# Altium footprint library ble_ac_rc_lib.PcbLib: 62 footprints (part 1 of 4)
Each footprint in its own frame and in the unit in brackets; x right, y up, seen from the top. Pads: shape width x height; smd on the part's side, far side on the other; paste and mask are expansions set on the pad; w line width, h text height; cw(c..) or ccw(c..) is an arc to the next point about the centre after c.
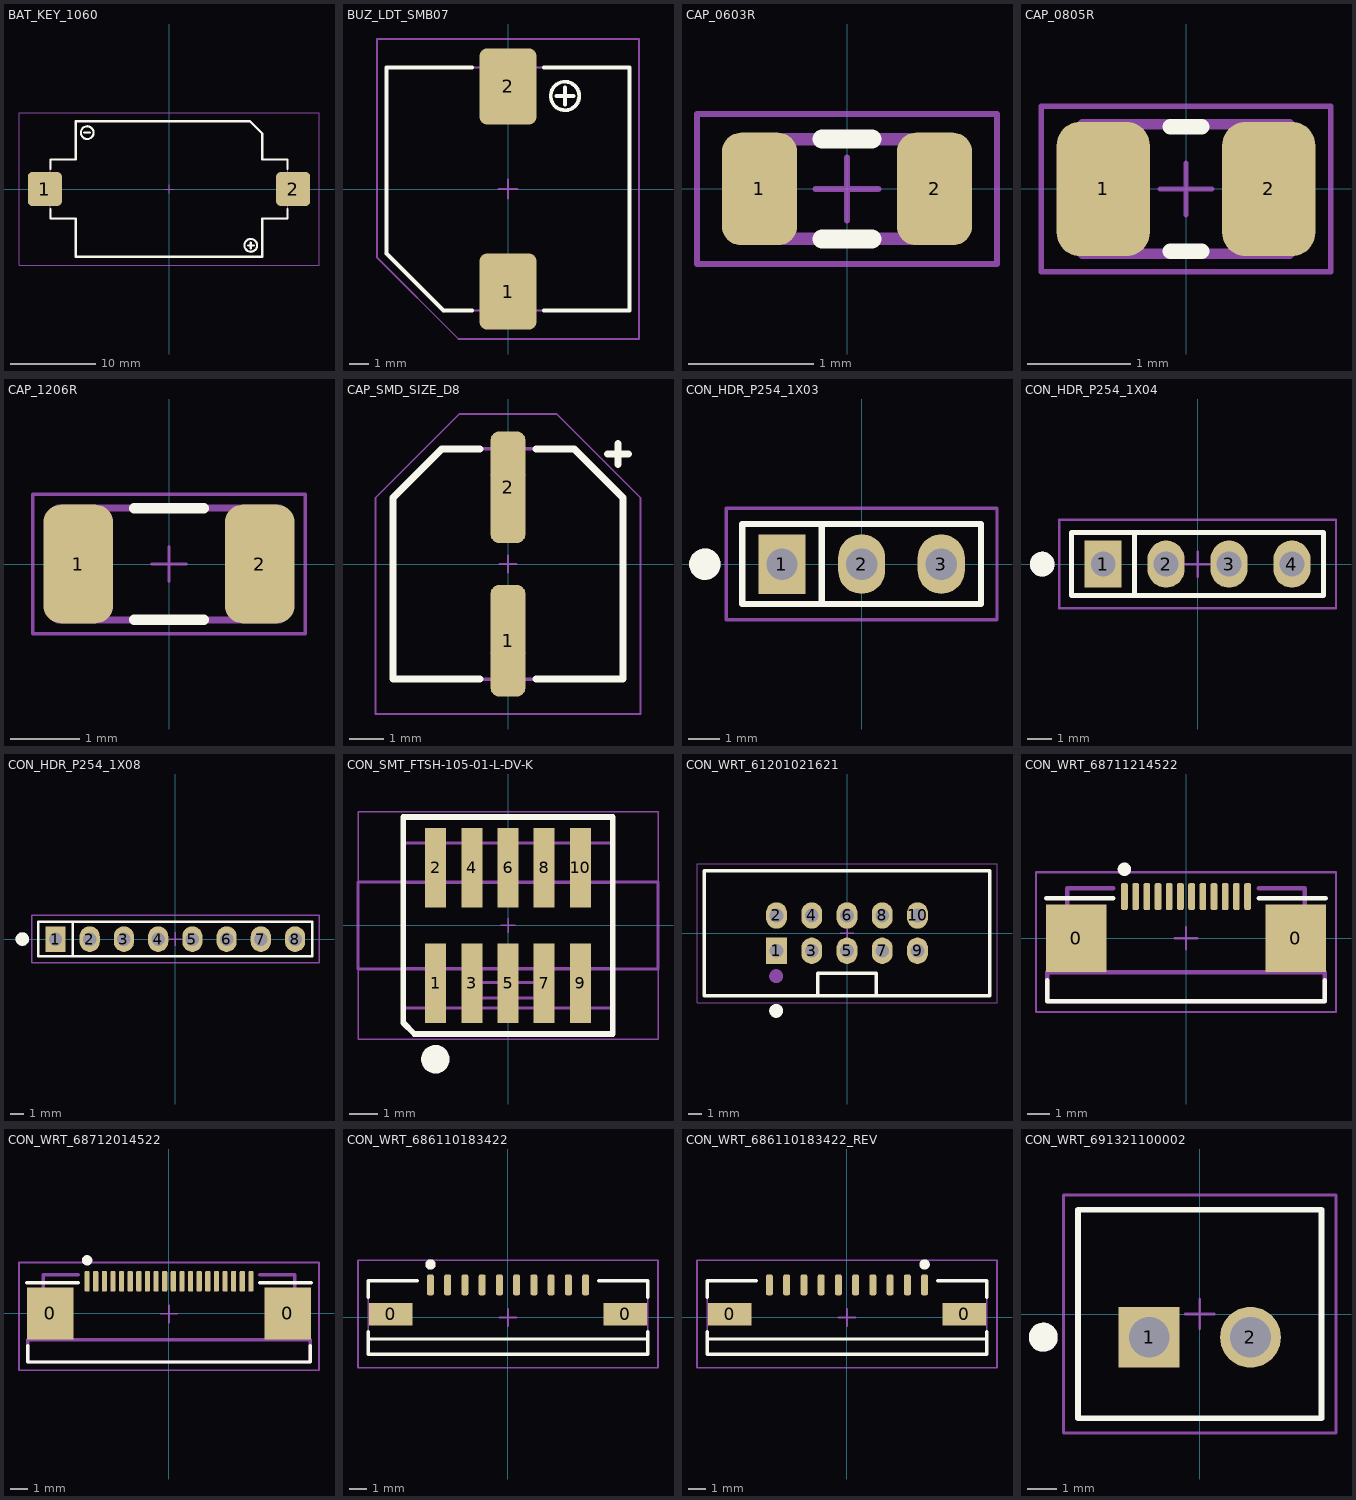
[diagram p0: the footprints below, top view; thin cyan lines are the x and y axes]

## BAT_KEY_1060 [mm]
pads (2):
  rrect25% 4x4 smd: 1(-14.65,0) 2(14.65,0)
Silkscreen Top:
  circle w0.25: c9.65,-6.65 r0.75
  circle w0.25: c-9.65,6.65 r0.75
  lines w0.25: -14,-2.35 -14,-3.5 -11,-3.5 -11,-8 11,-8 11,-3.5 14,-3.5 14,-2.35 ; -14,2.35 -14,3.5 -11,3.5 -11,8 9.55,8 11,6.55 11,3.5 14,3.5 14,2.35 ; -10,6.65 -9.3,6.65 ; 9.3,-6.65 10,-6.65 ; 9.65,-7 9.65,-6.3
M19 AssemblySMDTop:
  circle w0.1: c-9.65,6.65 r0.75
  circle w0.1: c9.65,-6.65 r0.75
  lines w0.1: -14,-1.6 -16.1,-1.6 -16.1,1.6 -14,1.6 ; -10,6.65 -9.3,6.65 ; 9.3,-6.65 10,-6.65 ; 9.65,-7 9.65,-6.3 ; 14,-1.6 16.1,-1.6 16.1,1.6 14,1.6 ; -14,-3.5 -11,-3.5 -11,-8 11,-8 11,-3.5 14,-3.5 14,3.5 11,3.5 11,6.55 9.55,8 -11,8 -11,3.5 -14,3.5 -14,-3.5
  text ".Designator" at -6.35,-0.5 h1.5
M23 CourtyardTop:
  lines w0.1: -0.5,0 0.5,0 ; 0,-0.5 0,0.5 ; -17.7,-9 -17.7,9 17.7,9 17.7,-9 -17.7,-9
3D body "Keystone_KEYS1060.step": height 5.7, standoff 0.1, extent -16.1,-8 16.1,8
3D body "Battery_CR2032.step": height 5.5, standoff 2.3, extent -10,-10 10,10

## BUZ_LDT_SMB07 [mm]
pads (2):
  rrect25% 3x4 smd: 1(0,-5.4) 2(0,5.4)
Silkscreen Top:
  circle w0.2: c3,4.9 r0.75
  lines w0.2: -1.9,-6.4 -3.4,-6.4 -6.4,-3.4 -6.4,6.4 -1.9,6.4 ; 1.9,-6.4 6.4,-6.4 6.4,6.4 1.9,6.4 ; 2.55,4.9 3.45,4.9 ; 3,4.45 3,5.35
M19 AssemblySMDTop:
  circle w0.1: c3,4.9 r0.75
  lines w0.1: 2.55,4.9 3.45,4.9 ; 3,4.45 3,5.35 ; -6.4,-3.4 -6.4,6.4 6.4,6.4 6.4,-6.4 -3.4,-6.4 -6.4,-3.4 ; -1,-6.9 1,-6.9 1,-6.4 -1,-6.4 -1,-6.9 ; -1,6.4 1,6.4 1,6.9 -1,6.9 -1,6.4
  text ".Designator" at -5.1,-0.55 h1.5
M23 CourtyardTop:
  lines w0.1: -0.5,0 0.5,0 ; 0,-0.5 0,0.5 ; -6.9,-3.607 -2.607,-7.9 6.9,-7.9 6.9,7.9 -6.9,7.9 -6.9,-3.607
  lines w0.2: -6.4,-3.4 -3.4,-6.4
3D body: height 0.25, standoff 0, extent -1,3.9 1,6.9
3D body: height 0.25, standoff 0, extent -1,-6.9 1,-3.9
3D body: height 6.5, standoff 0.25, extent -6.4,-6.4 6.4,6.4
3D body: height 45.2, standoff 0, extent -7.05,8.2 -7.05,8.2

## CAP_0603R [mm]
pads (2):
  rrect50% 0.6x0.9 smd: 1(-0.7,0) 2(0.7,0)
Silkscreen Top:
  lines w0.15: -0.2,-0.4 0.2,-0.4 ; -0.2,0.4 0.2,0.4
M19 AssemblySMDTop:
  lines w0.1: -0.8,-0.4 -0.8,0.4 0.8,0.4 0.8,-0.4 -0.8,-0.4
  text ".Designator" at -0.6,-0.15 h0.4
M23 CourtyardTop:
  lines w0.05: -0.25,0 0.25,0 ; 0,-0.25 0,0.25 ; -1.2,-0.6 -1.2,0.6 1.2,0.6 1.2,-0.6 -1.2,-0.6
3D body "CAPC1608X_0603.step": height 0.57, standoff 0, extent -0.8,-0.41 0.8,0.41

## CAP_0805R [mm]
pads (2):
  rrect50% 0.9x1.3 smd: 1(-0.8,0) 2(0.8,0)
Silkscreen Top:
  lines w0.15: -0.15,-0.6 0.15,-0.6 ; -0.15,0.6 0.15,0.6
M19 AssemblySMDTop:
  lines w0.1: -1,-0.625 -1,0.625 1,0.625 1,-0.625 -1,-0.625
  text ".Designator" at -1.025,-0.275 h0.64
M23 CourtyardTop:
  lines w0.05: -0.25,0 0.25,0 ; 0,-0.25 0,0.25 ; -1.4,-0.8 -1.4,0.8 1.4,0.8 1.4,-0.8 -1.4,-0.8
3D body "CAP0805.step": height 0.6, standoff 0, extent -1,-0.625 1,0.625

## CAP_1206R [mm]
pads (2):
  rrect50% 1x1.7 smd: 1(-1.3,0) 2(1.3,0)
Silkscreen Top:
  lines w0.15: -0.5,-0.8 0.5,-0.8 ; -0.5,0.8 0.5,0.8
M19 AssemblySMDTop:
  lines w0.1: -1.6,-0.8 -1.6,0.8 1.6,0.8 1.6,-0.8 -1.6,-0.8
  text ".Designator" at -1.325,-0.475 h1
M23 CourtyardTop:
  lines w0.05: -0.25,0 0.25,0 ; 0,-0.25 0,0.25 ; -1.95,-1 1.95,-1 1.95,1 -1.95,1 -1.95,-1
3D body "CAP1206.step": height 0.79, standoff 0.01, extent -1.6,-0.8 1.6,0.8

## CAP_SMD_SIZE_D8 [mm]
pads (2):
  rrect50% 1x3.2 smd: 1(0,-2.2) 2(0,2.2)
Silkscreen Top:
  lines w0.2: -0.8,-3.3 -3.3,-3.3 -3.3,1.9 -1.9,3.3 -0.8,3.3 ; 0.8,-3.3 3.3,-3.3 3.3,1.9 1.9,3.3 0.8,3.3 ; 2.85,3.15 3.45,3.15 ; 3.15,2.85 3.15,3.45
M19 AssemblySMDTop:
  lines w0.1: -3.3,-3.3 -3.3,1.9 -1.9,3.3 1.9,3.3 3.3,1.9 3.3,-3.3 -3.3,-3.3
  lines w0.2: -0.4,-2.55 0.4,-2.55 ; -0.4,2.55 0.4,2.55 ; 0,2.15 0,2.95
  text ".Designator" at -2.75,-0.55 h1.4
M23 CourtyardTop:
  lines w0.05: -0.25,0 0.25,0 ; 0,-0.25 0,0.25 ; -3.8,-4.3 -3.8,1.9 -1.4,4.3 1.4,4.3 3.8,1.9 3.8,-4.3 -3.8,-4.3
3D body "CAP Size D8.step": height 7.71, standoff -0.01, extent -3.3,-3.5 3.3,3.5

## CON_HDR_P254_1X03 [mm]
pads (3):
  rect 1.5x1.9 hole 1: 1(-2.54,0)
  oval 1.5x1.9 hole 1: 2(0,0) 3(2.54,0)
Silkscreen Top:
  circle w0.5: c-5,0 r0.25
  lines w0.2: -1.27,-1.27 -1.27,1.27 ; -3.81,-1.27 -3.81,1.28 3.81,1.28 3.81,-1.27 -3.81,-1.27
M21 AssemblyTHTTop:
  circle w0.5: c-5,0 r0.25
  lines w0.1: -3.81,1.27 3.81,1.27 3.81,-1.27 -3.81,-1.27 -3.81,1.275 ; -1.27,-1.27 -1.27,1.275
  text ".Designator" at -3.2,-0.425 h1
M23 CourtyardTop:
  lines w0.1: -0.5,0 0.5,0 ; 0,-0.5 0,0.5 ; -4.318,-1.773 -4.318,1.783 4.318,1.783 4.318,-1.773 -4.318,-1.773
3D body "Wurth_61300311121.stp": height 8.57, standoff -2.97, extent -3.81,-1.27 3.81,1.27

## CON_HDR_P254_1X04 [mm]
pads (4):
  rect 1.5x1.9 hole 1: 1(-3.81,0)
  oval 1.5x1.9 hole 1: 2(-1.27,0) 3(1.27,0) 4(3.81,0)
Silkscreen Top:
  circle w0.5: c-6.27,0 r0.25
  lines w0.2: -2.54,-1.27 -2.54,1.27 ; -5.08,-1.27 -5.08,1.28 5.08,1.28 5.08,-1.27 -5.08,-1.27
M21 AssemblyTHTTop:
  circle w0.5: c-6.27,0 r0.25
  lines w0.1: -5.08,1.27 5.08,1.27 5.08,-1.27 -5.08,-1.27 -5.08,1.275 ; -2.54,-1.27 -2.54,1.275
  text ".Designator" at -4.47,-0.425 h1
M23 CourtyardTop:
  lines w0.1: -0.5,0 0.5,0 ; 0,-0.5 0,0.5 ; -5.588,-1.773 -5.588,1.783 5.588,1.783 5.588,-1.773 -5.588,-1.773
3D body "Wurth_61300411121.stp": height 8.57, standoff -2.97, extent -5.08,-1.27 5.08,1.27

## CON_HDR_P254_1X08 [mm]
pads (8):
  rect 1.5x1.9 hole 1: 1(-8.89,0)
  oval 1.5x1.9 hole 1: 2(-6.35,0) 3(-3.81,0) 4(-1.27,0) 5(1.27,0) 6(3.81,0) 7(6.35,0) 8(8.89,0)
Silkscreen Top:
  circle w0.5: c-11.35,0 r0.25
  lines w0.2: -7.62,-1.27 -7.62,1.27 ; -10.16,-1.27 -10.16,1.28 10.16,1.28 10.16,-1.27 -10.16,-1.27
M21 AssemblyTHTTop:
  circle w0.5: c-11.35,0 r0.25
  lines w0.1: -10.16,1.27 10.16,1.27 10.16,-1.27 -10.16,-1.27 -10.16,1.275 ; -7.62,-1.27 -7.62,1.275
  text ".Designator" at -4.7,-0.3 h1
M23 CourtyardTop:
  lines w0.1: -0.5,0 0.5,0 ; 0,-0.5 0,0.5 ; -10.668,-1.773 -10.668,1.783 10.668,1.783 10.668,-1.773 -10.668,-1.773
3D body "61300811121.stp": height 8.57, standoff -2.97, extent -10.16,-1.27 10.16,1.27

## CON_SMT_FTSH-105-01-L-DV-K [mil] "Connector, Pin Header, dual, SMD, 10 pin, pitch 1.27mm"
pads (10):
  rect 29x110 smd mask+2: 1(-100,-80) 2(-100,80) 3(-50,-80) 4(-50,80) 5(0,-80) 6(0,80) 7(50,-80) 8(50,80) 9(100,-80) 10(100,80)
Silkscreen Top:
  circle w19.68: c-100.39,-185.04 r9.84
  lines w7.87: -145,-134.53 -129.53,-150 145,-150 145,150 -145,150 -145,-134.53
M17 3DBodyTop:
  lines w3.94: -37.4,-60.04 -37.4,-100.2 37.4,-100.2 37.4,-60.04 ; -207.48,-60.04 -207.48,60.04 207.48,60.04 207.48,-60.04 -207.48,-60.04
M19 AssemblySMDTop:
  circle w9.84: c-98.43,-86.61 r4.92
  lines w3.94: -145,-59.06 145,-59.06 ; -145,59.06 145,59.06 ; -37.4,-59.06 -37.4,-78.74 37.4,-78.74 37.4,-59.06 ; -145,-114.17 145,-114.17 145,114.17 -145,114.17 -145,-114.17
  text ".Designator" at -122.05,-15.75 h39.37
M23 CourtyardTop:
  lines w1.97: -9.84,0 9.84,0 ; 0,-9.84 0,9.84 ; -207.48,-157.48 -207.48,157.48 207.48,157.48 207.48,-157.48 -207.48,-157.48
3D body "Samtech_FTSH-105-01-L-DV-K.stp": height 240.75, standoff -0.25, extent -124.99,-115 125,115

## CON_WRT_61201021621 [mm]
pads (10):
  rect 1.5x1.9 hole 1: 1(-5.08,-1.27)
  oval 1.5x1.9 hole 1: 2(-5.08,1.27) 3(-2.54,-1.27) 4(-2.54,1.27) 5(0,-1.27) 6(0,1.27) 7(2.54,-1.27) 8(2.54,1.27) 9(5.08,-1.27) 10(5.08,1.27)
Silkscreen Top:
  circle w0.5: c-5.1,-5.6 r0.25
  lines w0.25: -2.1,-4.5 -2.1,-2.9 2.1,-2.9 2.1,-4.5 ; -10.28,-4.5 10.28,-4.5 10.28,4.5 -10.28,4.5 -10.28,-4.5
M21 AssemblyTHTTop:
  circle w0.5: c-5.1,-3.1 r0.25
  lines w0.1: -2.1,-4.5 -2.1,-2.9 2.1,-2.9 2.1,-4.5 ; -10.3,-4.5 10.3,-4.5 10.3,4.5 -10.3,4.5 -10.3,-4.5
  text ".Designator" at -6.7,-0.4 h1.4
M23 CourtyardTop:
  lines w0.05: -10.8,-5 -10.8,5 10.8,5 10.8,-5 -10.8,-5
  lines w0.1: -0.5,0 0.5,0 ; 0,-0.5 0,0.5
3D body "61201021621.stp": height 9.13, standoff -2.98, extent -10.18,-4.425 10.18,4.75

## CON_WRT_68711214522 [mm]
pads (14):
  rect 2.7x3 smd: 0(-4.9,0) 0(4.9,0)
  rrect50% 0.3x1.2 smd: 1(-2.75,1.86) 2(-2.25,1.86) 3(-1.75,1.86) 4(-1.25,1.86) 5(-0.75,1.86) 6(-0.25,1.86) 7(0.25,1.86) 8(0.75,1.86) 9(1.25,1.86) 10(1.75,1.86) 11(2.25,1.86) 12(2.75,1.86)
Silkscreen Top:
  circle w0.3: c-2.75,3.08 r0.15
  lines w0.2: -6.25,1.78 -3.25,1.78 ; -6.2,-1.87 -6.2,-2.82 6.2,-2.82 6.2,-1.87 ; 3.25,1.78 6.25,1.78
M19 AssemblySMDTop:
  lines w0.2: -5.3,-1.52 -5.3,2.23 -3.25,2.23 ; 3.25,2.23 5.3,2.23 5.3,-1.52 ; -6.2,-2.82 -6.2,-1.52 6.2,-1.52 6.2,-2.82 -6.2,-2.82
  text ".Designator" at -4.3,-0.47 h1.5
M23 CourtyardTop:
  lines w0.1: -0.5,0 0.5,0 ; 0,-0.5 0,0.5 ; -6.7,-3.3 -6.7,2.95 6.7,2.95 6.7,-3.3 -6.7,-3.3
3D body "68711214522 (rev1).stp": height 2.1, standoff 0, extent -6.2,-2.84 6.2,2.26

## CON_WRT_68712014522 [mm]
pads (22):
  rect 2.7x3 smd: 0(-6.9,0) 0(6.9,0)
  rrect50% 0.3x1.2 smd: 1(-4.75,1.86) 2(-4.25,1.86) 3(-3.75,1.86) 4(-3.25,1.86) 5(-2.75,1.86) 6(-2.25,1.86) 7(-1.75,1.86) 8(-1.25,1.86) 9(-0.75,1.86) 10(-0.25,1.86) 11(0.25,1.86) 12(0.75,1.86) 13(1.25,1.86) 14(1.75,1.86) 15(2.25,1.86) 16(2.75,1.86) 17(3.25,1.86) 18(3.75,1.86) 19(4.25,1.86) 20(4.75,1.86)
Silkscreen Top:
  circle w0.3: c-4.75,3.08 r0.15
  lines w0.2: -8.25,1.78 -5.25,1.78 ; -8.2,-1.87 -8.2,-2.82 8.2,-2.82 8.2,-1.87 ; 5.25,1.78 8.25,1.78
M19 AssemblySMDTop:
  lines w0.2: -7.3,-1.52 -7.3,2.23 -5.25,2.23 ; 5.25,2.23 7.3,2.23 7.3,-1.52 ; -8.2,-2.82 -8.2,-1.52 8.2,-1.52 8.2,-2.82 -8.2,-2.82
  text ".Designator" at -6.3,-0.47 h1.5
M23 CourtyardTop:
  lines w0.1: -0.5,-0.025 0.5,-0.025 ; 0,-0.525 0,0.475 ; -8.7,-3.3 -8.7,2.95 8.7,2.95 8.7,-3.3 -8.7,-3.3
3D body "WE_68712014522.stp": height 2.1, standoff 0, extent -8.2,-2.84 8.2,2.26

## CON_WRT_686110183422 [mm]
pads (12):
  rect 2.5x1.3 smd: 0(-6.8,0.175) 0(6.8,0.175)
  rrect50% 0.4x1.2 smd: 1(-4.5,1.885) 2(-3.5,1.885) 3(-2.5,1.885) 4(-1.5,1.885) 5(-0.5,1.885) 6(0.5,1.885) 7(1.5,1.885) 8(2.5,1.885) 9(3.5,1.885) 10(4.5,1.885)
Silkscreen Top:
  circle w0.3: c-4.5,3.075 r0.15
  lines w0.2: -8.1,-1.25 8.1,-1.25 ; -8.1,-0.825 -8.1,-2.125 8.1,-2.125 8.1,-0.825 ; -8.1,1.175 -8.1,2.125 -5.25,2.125 ; 5.25,2.125 8.1,2.125 8.1,1.175
M19 AssemblySMDTop:
  lines w0.1: -8.1,-1.25 8.1,-1.25 ; -5.25,2.125 -8.1,2.125 -8.1,-2.125 8.1,-2.125 8.1,2.125 5.25,2.125
  text ".Designator" at -7.4,-0.45 h1.5
M23 CourtyardTop:
  lines w0.1: -0.5,0 0.5,0 ; 0,-0.5 0,0.5 ; -8.7,-2.925 -8.7,3.325 8.7,3.325 8.7,-2.925 -8.7,-2.925
3D body "WE_686110183422.stp": height 1.29, standoff 0, extent -8.1,-2.115 8.1,2.135

## CON_WRT_686110183422_REV [mm]
pads (12):
  rect 2.5x1.3 smd: 0(-6.8,0.175) 0(6.8,0.175)
  rrect50% 0.4x1.2 smd: 1(4.5,1.885) 2(3.5,1.885) 3(2.5,1.885) 4(1.5,1.885) 5(0.5,1.885) 6(-0.5,1.885) 7(-1.5,1.885) 8(-2.5,1.885) 9(-3.5,1.885) 10(-4.5,1.885)
Silkscreen Top:
  circle w0.3: c4.5,3.075 r0.15
  lines w0.2: -8.1,-1.25 8.1,-1.25 ; -8.1,-0.825 -8.1,-2.125 8.1,-2.125 8.1,-0.825 ; -8.1,1.175 -8.1,2.125 -5.25,2.125 ; 5.25,2.125 8.1,2.125 8.1,1.175
M19 AssemblySMDTop:
  lines w0.1: -8.1,-1.25 8.1,-1.25 ; -5.25,2.125 -8.1,2.125 -8.1,-2.125 8.1,-2.125 8.1,2.125 5.25,2.125
  text ".Designator" at -7.4,-0.45 h1.5
M23 CourtyardTop:
  lines w0.1: -0.5,0 0.5,0 ; 0,-0.5 0,0.5 ; -8.7,-2.925 8.7,-2.925 8.7,3.325 -8.7,3.325 -8.7,-2.925
3D body "WE_686110183422.stp": height 1.29, standoff 0, extent -8.1,-2.115 8.1,2.135

## CON_WRT_691321100002 [mm]
pads (2):
  rect 2.1x2.1 hole 1.4: 1(-1.75,-0.8)
  round 2.1 hole 1.4: 2(1.75,-0.8)
Silkscreen Top:
  circle w0.5: c-5.4,-0.8 r0.25
  lines w0.2: -4.2,-3.6 4.2,-3.6 4.2,3.6 -4.2,3.6 -4.2,-3.6
M21 AssemblyTHTTop:
  circle w0.5: c-5.4,-0.8 r0.25
  lines w0.1: -4.2,-3.6 4.2,-3.6 4.2,3.6 -4.2,3.6 -4.2,-3.6
  text ".Designator" at -3.6,-1.5 h1.4
M23 CourtyardTop:
  lines w0.1: -0.5,0 0.5,0 ; 0,-0.5 0,0.5 ; -4.7,-4.1 -4.7,4.1 4.7,4.1 4.7,-4.1 -4.7,-4.1
3D body "691321100002.stp": height 9.3, standoff -3.4, extent -4.2,-3.6 4.2,3.6